# Altium schematic symbol library 呼吸灯电路设计.SCHLIB: 8 symbols
Pins are listed as number, name and electrical type; pins without a type are passive.

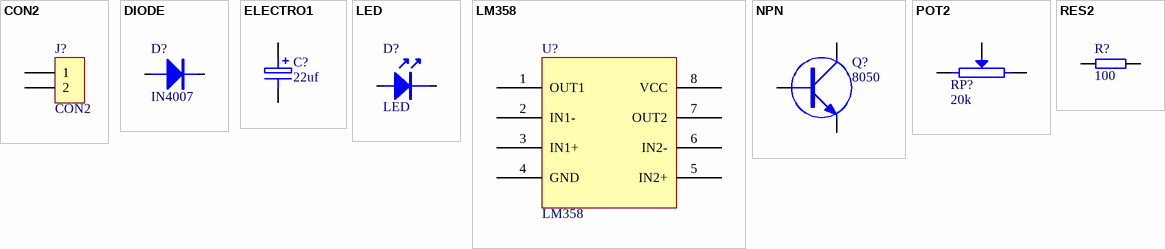
[diagram p0: symbols CON2 to RES2]

## CON2
designator J?
Connector
footprint SIP2
footprint 5.08-S201
pins: 1, 2

## DIODE
designator D?, comment IN4007
footprint DIODE0.4
footprint DIODE0.3
footprint DIODE0.2
footprint D190
footprint D1206
pins: A, K

## ELECTRO1
designator C?, comment 22uf
Electrolytic Capacitor
footprint RB.1/.2
footprint RB.2/.4
pins: 1, 2

## LED
designator D?
footprint LED
footprint D0805
pins: A, K

## LM358
designator U?
footprint DIP8
pins: 1 OUT1, 2 IN1-, 3 IN1+, 4 GND, 5 IN2+, 6 IN2-, 7 OUT2, 8 VCC

## NPN
designator Q?, comment 8050
footprint TO-92C
footprint TO-92D
footprint TO-39A
pins: B, C, E

## POT2
designator RP?, comment 20k
Potentiometer
footprint VR9
footprint VR7
footprint RV09
footprint VR1
pins: 1, 2, 3

## RES2
designator R?, comment 100
footprint AXIAL0.3
footprint AXIAL0.4
footprint AXIAL0.1
footprint AXIAL1.0
footprint R/C0805
footprint R/C0805
pins: 1, 2